# Altium footprint library SMD-Q  0607.PcbLib: 73 footprints (part 2 of 5)
Each footprint in its own frame and in the unit in brackets; x right, y up, seen from the top. Pads: shape width x height; smd on the part's side, far side on the other; paste and mask are expansions set on the pad; w line width, h text height; cw(c..) or ccw(c..) is an arc to the next point about the centre after c.
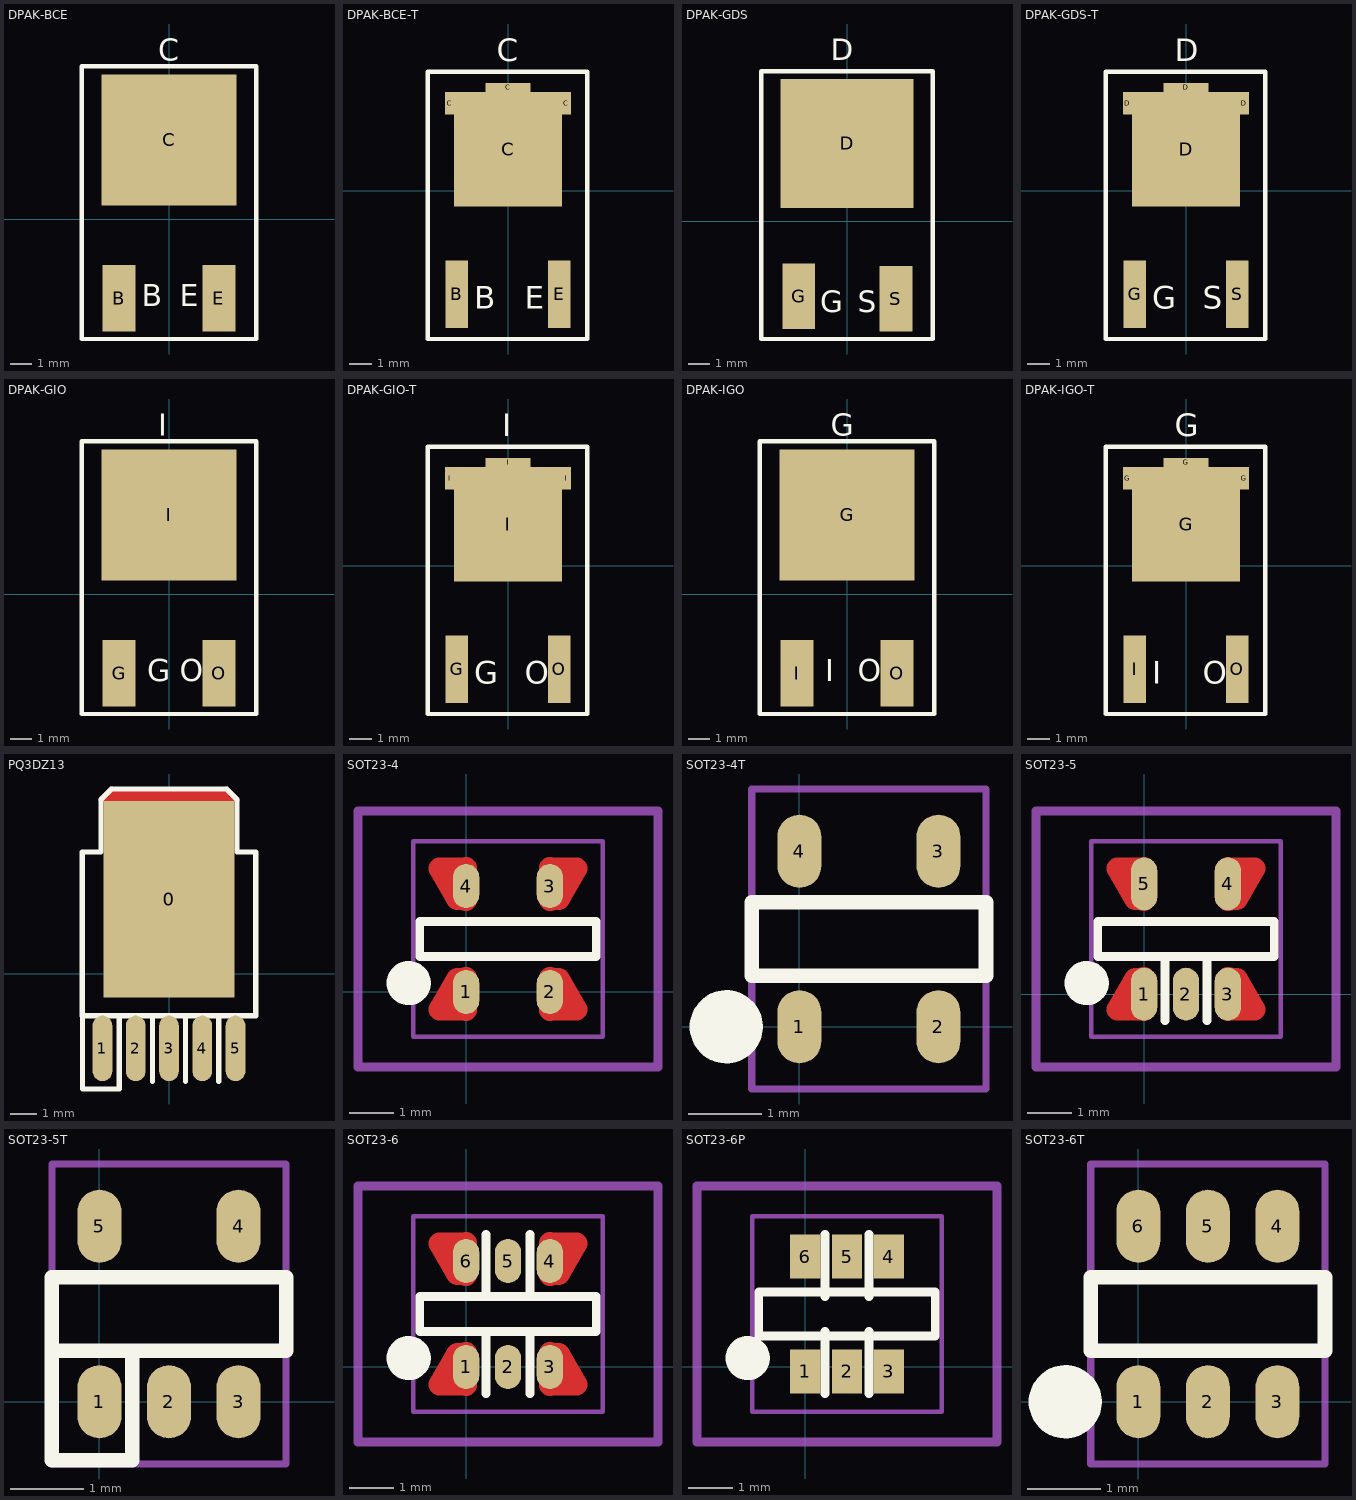
[diagram p1: the footprints below, top view; thin cyan lines are the x and y axes]

## DPAK-BCE [mil]
height 183.07
pads (3):
  rect 60x120 smd: B(-90,-142.72) E(90,-142.72)
  rect 244.09x236.22 smd: C(0,142.72)
Top Overlay:
  lines w7.87: -157.48,-216.54 -157.48,275.59 157.48,275.59 157.48,-216.54 -157.48,-216.54
  text "E" at 19.68,-157.48 h39.37
  text "B" at -49.21,-157.48 h39.37
  text "C" at -19.68,285.43 h39.37

## DPAK-BCE-T [mm]
height 4.65
pads (6):
  rect 1x3 smd: B(-2.285,-4.6) E(2.285,-4.6)
  rect 0.4x1 smd: C(-2.6,3.9) C(2.6,3.9)
  rect 4.8x5.1 smd: C(0,1.85)
  rect 2x0.4 smd: C(0,4.6)
Top Overlay:
  lines w0.2: -3.575,-6.6 3.525,-6.6 3.525,5.3 -3.575,5.3 -3.575,-6.6
  text "C" at -0.5,5.75 h1
  text "B" at -1.5,-5.25 h1
  text "E" at 0.75,-5.25 h1

## DPAK-GDS [mm]
height 4.65
pads (3):
  rect 6.2x6 smd: D(0,3.625)
  rect 1.524x3.048 smd: G(-2.25,-3.5) S(2.286,-3.625)
Top Overlay:
  lines w0.2: -4,-5.5 4,-5.5 4,7 -4,7 -4,-5.5
  text "D" at -0.75,7.5 h1
  text "G" at -1.25,-4.25 h1
  text "S" at 0.5,-4.25 h1

## DPAK-GDS-T [mm]
height 4.65
pads (6):
  rect 0.4x1 smd: D(-2.6,3.9) D(2.6,3.9)
  rect 4.8x5.1 smd: D(0,1.85)
  rect 2x0.4 smd: D(0,4.6)
  rect 1x3 smd: G(-2.285,-4.6) S(2.285,-4.6)
Top Overlay:
  lines w0.2: -3.575,-6.6 -3.575,5.3 3.525,5.3 3.525,-6.6 -3.575,-6.6
  text "S" at 0.75,-5.25 h1
  text "G" at -1.5,-5.25 h1
  text "D" at -0.5,5.75 h1

## DPAK-GIO [mil] "79XX"
height 183.07
pads (3):
  rect 60x120 smd: G(-90,-142.72) O(90,-142.72)
  rect 244.09x236.22 smd: I(0,142.72)
Top Overlay:
  lines w7.87: -157.48,-216.54 -157.48,275.59 157.48,275.59 157.48,-216.54 -157.48,-216.54
  text "O" at 19.68,-157.48 h39.37
  text "G" at -39.37,-157.48 h39.37
  text "I" at -19.68,285.43 h39.37

## DPAK-GIO-T [mm] "79XX"
height 4.65
pads (6):
  rect 1x3 smd: G(-2.285,-4.6) O(2.285,-4.6)
  rect 0.4x1 smd: I(-2.6,3.9) I(2.6,3.9)
  rect 4.8x5.1 smd: I(0,1.85)
  rect 2x0.4 smd: I(0,4.6)
Top Overlay:
  lines w0.2: -3.575,-6.6 3.525,-6.6 3.525,5.3 -3.575,5.3 -3.575,-6.6
  text "I" at -0.25,5.75 h1
  text "G" at -1.5,-5.25 h1
  text "O" at 0.75,-5.25 h1

## DPAK-IGO [mil] "78XX"
height 183.07
pads (3):
  rect 244.09x236.22 smd: G(0,142.72)
  rect 60x120 smd: I(-90,-142.72) O(90,-142.72)
Top Overlay:
  lines w7.87: -157.48,-216.54 -157.48,275.59 157.48,275.59 157.48,-216.54 -157.48,-216.54
  text "O" at 19.68,-157.48 h39.37
  text "I" at -39.37,-157.48 h39.37
  text "G" at -29.53,285.43 h39.37

## DPAK-IGO-T [mm] "78XX"
height 4.65
pads (6):
  rect 0.4x1 smd: G(-2.6,3.9) G(2.6,3.9)
  rect 4.8x5.1 smd: G(0,1.85)
  rect 2x0.4 smd: G(0,4.6)
  rect 1x3 smd: I(-2.285,-4.6) O(2.285,-4.6)
Top Overlay:
  lines w0.2: -3.575,-6.6 3.525,-6.6 3.525,5.3 -3.575,5.3 -3.575,-6.6
  text "G" at -0.5,5.75 h1
  text "I" at -1.5,-5.25 h1
  text "O" at 0.75,-5.25 h1

## PQ3DZ13 [mm]
height 2.35
pads (6):
  rect 5x7.5 smd: 0(0,2.85)
  oval 0.75x2.5 smd: 1(-2.54,-2.85) 2(-1.27,-2.85) 3(0,-2.85) 4(1.27,-2.85) 5(2.54,-2.85)
Top Layer:
  rectangle: -2.2,6.35 2.2,7.05
  lines w0.2: -2.6,6.65 -2.2,6.65 -2.2,7.05 -2.6,6.65 ; 2.2,6.65 2.2,7.05 2.6,6.65 2.2,6.65
  lines w1.27: -1.75,6.4 1.75,6.4
Top Overlay:
  lines w0.2: -3.31,-1.6 -3.31,4.65 -2.6,4.65 -2.6,6.65 -2.2,7.05 2.2,7.05 2.6,6.65 2.6,4.65 3.31,4.65 3.31,-1.6 ; -1.9,-1.6 -1.9,-4.4 -3.3,-4.4 -3.3,-1.6 3.3,-1.6 ; -0.625,-4.1 -0.625,-1.6 ; 0.625,-4.1 0.625,-1.6 ; 1.9,-4.1 1.9,-1.6
Top Solder:
  lines w1.27: -1.75,6.4 1.75,6.4

## SOT23-4 [mm]
height 1.45
pads (4):
  oval 0.6x1 smd: 1(0,0) 2(1.9,0) 3(1.9,2.4) 4(0,2.4)
Top Layer:
  lines w0.5: 0,-0.412 -0.6,-0.4 -0.2,0.288 0,0.313 ; 0,2.087 -0.2,2.112 -0.6,2.8 0,2.812 ; 1.9,-0.412 2.5,-0.4 2.1,0.288 1.9,0.313 ; 1.9,2.087 2.1,2.112 2.5,2.8 1.9,2.812
Top Overlay:
  circle w0.5: c-1.3,0.2 r0.25
  lines w0.2: -1.05,0.8 -1.05,1.6 2.95,1.6 2.95,0.8 -1.05,0.8
Top Solder:
  lines w0.4: 0,-0.412 -0.6,-0.4 -0.2,0.288 0,0.313 ; 0,2.087 -0.2,2.112 -0.6,2.8 0,2.812 ; 1.9,-0.412 2.5,-0.4 2.1,0.288 1.9,0.313 ; 1.9,2.087 2.1,2.112 2.5,2.8 1.9,2.812
Mechanical 8:
  lines w0.2: -2.45,-1.7 -2.45,4.1 4.35,4.1 4.35,-1.7 -2.45,-1.7
Mechanical 16:
  lines w0.1: -1.2,-1.012 3.1,-1.012 3.1,3.412 -1.2,3.412 -1.2,-1.012

## SOT23-4T [mm]
height 1.45
pads (4):
  oval 0.6x1 smd: 1(0,0) 2(1.9,0) 3(1.9,2.4) 4(0,2.4)
Top Overlay:
  circle w0.5: c-1,0 r0.25
  lines w0.2: -0.65,0.7 -0.65,1.7 2.55,1.7 2.55,0.7 -0.65,0.7
Mechanical 15:
  lines w0.1: -0.65,-0.85 2.55,-0.85 2.55,3.25 -0.65,3.25 -0.65,-0.85

## SOT23-5 [mm]
height 1.45
pads (5):
  oval 0.6x1.2 smd: 1(0,0) 2(0.95,0) 3(1.9,0) 4(1.9,2.5) 5(0,2.5)
Top Layer:
  lines w0.5: 0,-0.362 -0.6,-0.35 -0.2,0.338 0,0.363 ; 0,2.137 -0.2,2.162 -0.6,2.85 0,2.862 ; 1.9,-0.362 2.5,-0.35 2.1,0.338 1.9,0.363 ; 1.9,2.137 2.1,2.162 2.5,2.85 1.9,2.862
Top Overlay:
  circle w0.5: c-1.3,0.25 r0.25
  lines w0.2: 0.475,-0.6 0.475,0.85 ; 1.425,-0.6 1.425,0.85 ; -1.05,0.85 -1.05,1.65 2.95,1.65 2.95,0.85 -1.05,0.85
Top Solder:
  lines w0.4: 0,-0.362 -0.6,-0.35 -0.2,0.338 0,0.363 ; 0,2.137 -0.2,2.162 -0.6,2.85 0,2.862 ; 1.9,-0.362 2.5,-0.35 2.1,0.338 1.9,0.363 ; 1.9,2.137 2.1,2.162 2.5,2.85 1.9,2.862
Mechanical 8:
  lines w0.2: -2.45,-1.65 4.35,-1.65 4.35,4.15 -2.45,4.15 -2.45,-1.65
Mechanical 16:
  lines w0.1: -1.2,-0.962 3.1,-0.962 3.1,3.462 -1.2,3.462 -1.2,-0.962

## SOT23-5T [mm]
height 1.45
pads (5):
  oval 0.6x1 smd: 1(0,0) 2(0.95,0) 3(1.9,0) 4(1.9,2.4) 5(0,2.4)
Top Overlay:
  lines w0.2: -0.65,0.7 2.55,0.7 2.55,1.7 -0.65,1.7 -0.65,-0.8 0.45,-0.8 0.45,0.7
Mechanical 15:
  lines w0.1: -0.65,-0.85 2.55,-0.85 2.55,3.25 -0.65,3.25 -0.65,-0.85

## SOT23-6 [mm]
height 1.45
pads (6):
  oval 0.6x1 smd: 1(0,0) 2(0.95,0) 3(1.9,0) 4(1.9,2.4) 5(0.95,2.4) 6(0,2.4)
Top Layer:
  lines w0.5: 0,-0.412 -0.6,-0.4 -0.2,0.288 0,0.313 ; 0,2.087 -0.2,2.112 -0.6,2.8 0,2.812 ; 1.9,-0.412 2.5,-0.4 2.1,0.288 1.9,0.313 ; 1.9,2.087 2.1,2.112 2.5,2.8 1.9,2.812
Top Overlay:
  circle w0.5: c-1.3,0.2 r0.25
  lines w0.2: 0.45,-0.6 0.45,0.8 ; 0.45,1.6 0.45,3 ; 1.45,-0.6 1.45,0.8 ; 1.45,1.6 1.45,3 ; -1.05,0.8 -1.05,1.6 2.95,1.6 2.95,0.8 -1.05,0.8
Top Solder:
  lines w0.4: 0,-0.412 -0.6,-0.4 -0.2,0.288 0,0.313 ; 0,2.087 -0.2,2.112 -0.6,2.8 0,2.812 ; 1.9,-0.412 2.5,-0.4 2.1,0.288 1.9,0.313 ; 1.9,2.087 2.1,2.112 2.5,2.8 1.9,2.812
Mechanical 8:
  lines w0.2: -2.45,-1.7 4.35,-1.7 4.35,4.1 -2.45,4.1 -2.45,-1.7
Mechanical 16:
  lines w0.1: -1.2,-1.012 -1.2,3.412 3.1,3.412 3.1,-1.012 -1.2,-1.012

## SOT23-6P [mm]
height 1.45
pads (6):
  rect 0.69x1 smd: 1(0,-0.1) 2(0.95,-0.1) 3(1.9,-0.1) 4(1.9,2.5) 5(0.95,2.5) 6(0,2.5)
Top Overlay:
  circle w0.5: c-1.3,0.2 r0.25
  lines w0.2: 0.45,-0.6 0.45,0.8 ; 0.45,1.6 0.45,3 ; 1.45,-0.6 1.45,0.8 ; 1.45,1.6 1.45,3 ; -1.05,0.7 -1.05,1.7 2.95,1.7 2.95,0.7 -1.05,0.7
Mechanical 8:
  lines w0.2: -2.45,-1.7 4.35,-1.7 4.35,4.1 -2.45,4.1 -2.45,-1.7
Mechanical 16:
  lines w0.1: -1.2,-1.012 -1.2,3.412 3.1,3.412 3.1,-1.012 -1.2,-1.012

## SOT23-6T [mm]
height 1.45
pads (6):
  oval 0.6x1 smd: 1(0,0) 2(0.95,0) 3(1.9,0) 4(1.9,2.4) 5(0.95,2.4) 6(0,2.4)
Top Overlay:
  circle w0.5: c-1,0 r0.25
  lines w0.2: -0.65,0.7 2.55,0.7 2.55,1.7 -0.65,1.7 -0.65,0.7
Mechanical 15:
  lines w0.1: -0.65,-0.85 -0.65,3.25 2.55,3.25 2.55,-0.85 -0.65,-0.85